# Altium schematic symbol library Clate_Charger.SchLib: 9 symbols
Pins are listed as number, name and electrical type; pins without a type are passive.

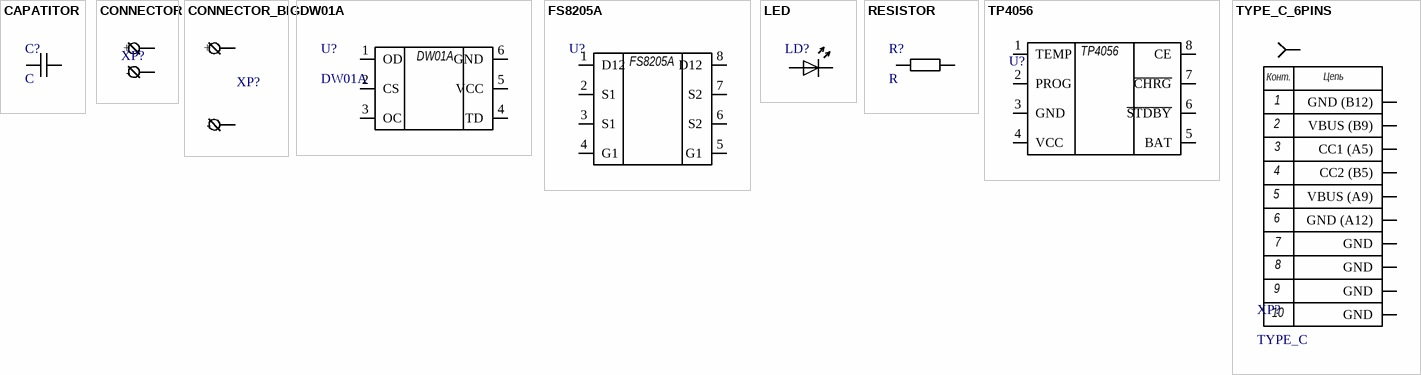
[diagram p0: symbols CAPATITOR to TYPE_C_6PINS]

## CAPATITOR
designator C?, comment C
footprint SMD_0805 - duplicate3
pins: 1, 2

## CONNECTOR
designator XP?, comment XP  (value not drawn)
footprint COMMECTION_POINTS
pins: 1 +, 2 -

## CONNECTOR_BIG
designator XP?, comment XP  (value not drawn)
footprint COMMECTION_POINTS
pins: 1 +, 2 -

## DW01A
designator U?
footprint DW01A
pins: 1 OD, 2 CS, 3 OC, 4 TD, 5 VCC, 6 GND

## FS8205A
designator U?  (value not drawn)
footprint FS8205A
pins: 1 D12, 2 S1, 3 S1, 4 G1, 5 G1, 6 S2, 7 S2, 8 D12

## LED
designator LD?  (value not drawn)
footprint SMD_0805_LED
pins: 1, 2

## RESISTOR
designator R?, comment R
footprint SMD_0805
footprint SMD_0805 - duplicate
footprint SMD_0805 - duplicate1
footprint SMD_0805 - duplicate2
pins: 1 0, 2 1

## TP4056
designator U?  (value not drawn)
footprint TP4056
pins: 1 TEMP, 2 PROG, 3 GND, 4 VCC, 5 BAT, 6 ~{STDBY}, 7 ~{CHRG}, 8 CE

## TYPE_C_6PINS
designator XP?, comment TYPE_C
footprint TYPE_C_6pins
pins: 1 GND (B12), 1 GND, 1 GND, 1 GND, 1 GND, 2 VBUS (B9), 3 CC1 (A5), 4 CC2 (B5), 5 VBUS (A9), 6 GND (A12)
text: Конт.; Цепь; 7; 8; 9; 10